# Altium schematic symbol library Capacitor.SchLib: 1 symbol
Pins are listed as number, name and electrical type; pins without a type are passive.

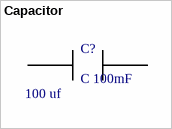
[diagram p0: symbol Capacitor]

## Capacitor
designator C?, comment C 100mF  Capacitor: 100 uf
Parameter 2: *
footprint C1206 (Footprint not found)
pins: 1, 2